# Altium schematic symbol library myLibs.SchLib: 49 symbols
Pins are listed as number, name and electrical type; pins without a type are passive.

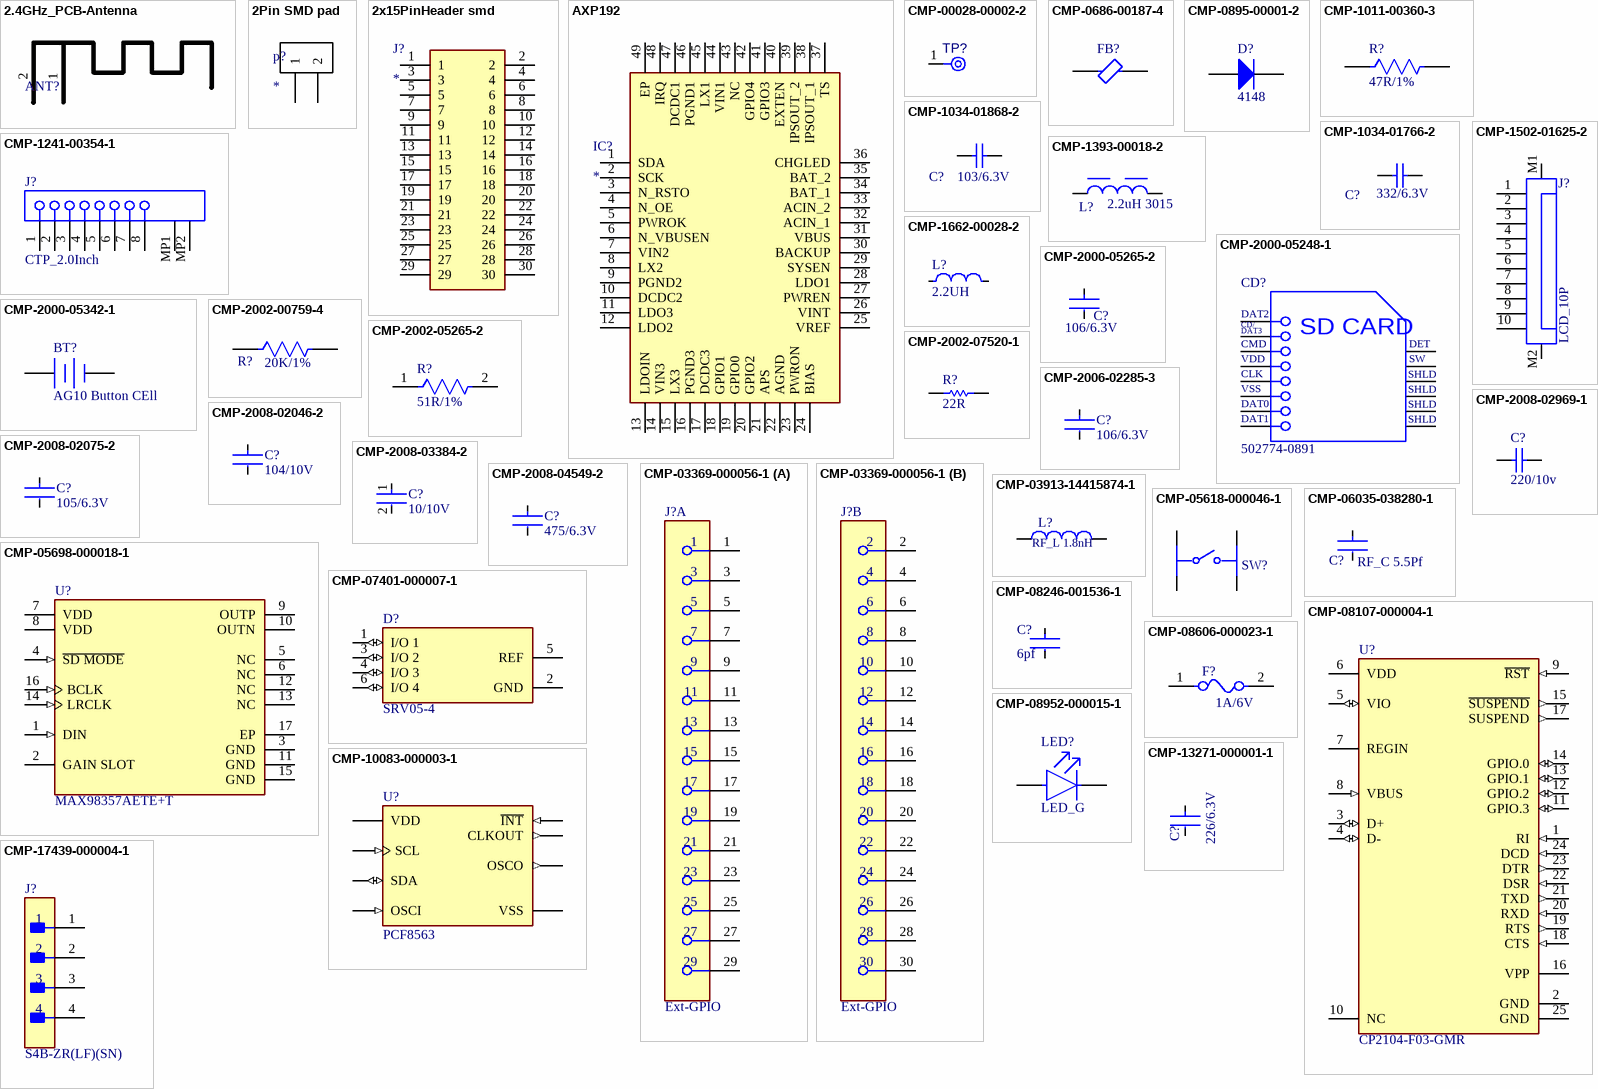
[diagram p0: symbols 2.4GHz_PCB-Antenna to CMP-17439-000004-1]

## 2.4GHz_PCB-Antenna
designator ANT?  (value not drawn)
Generic symbol for PCB Antenna,; Frequency: 2.4GHz; Reference: https://www.ti.com/lit/an/swra117d/swra117d.pdf
footprint 2.4GHZ_PCB-Antenna
pins: 1 ANT_IN, 2 GND

## 2Pin SMD pad
designator p?
footprint 2pin SMD pads (generic pads)
pins: 1, 2

## 2x15PinHeader smd
designator J?
Connector; Manufacturer_Name: SAMTEC; Manufacturer_Part_Number: TMM-115-01-L-D-SM-N; Datasheet Link: http://uk.rs-online.com/web/p/products/4814780; Height: 5.97mm
footprint 2x15pinHeader smd
pins: 1, 2, 3, 4, 5, 6, 7, 8, 9, 10, 11, 12, 13, 14, 15, 16, 17, 18, 19, 20, 21, 22, 23, 24, 25, 26, 27, 28, 29, 30

## AXP192
designator IC?
Integrated Circuit; Manufacturer_Name: X-Powers; Manufacturer_Part_Number: AXP192; Datasheet Link: http://www.x-powers.com/en.php/Info/down/id/50; Height: 0.92mm
footprint AXP192
pins: 1 SDA, 2 SCK, 3 N_RSTO, 4 N_OE, 5 PWROK, 6 N_VBUSEN, 7 VIN2, 8 LX2, 9 PGND2, 10 DCDC2, 11 LDO3, 12 LDO2, 13 LDOIN, 14 VIN3, 15 LX3, 16 PGND3, 17 DCDC3, 18 GPIO1, 19 GPIO0, 20 GPIO2, 21 APS, 22 AGND, 23 PWRON, 24 BIAS, 25 VREF, 26 VINT, 27 PWREN, 28 LDO1, 29 SYSEN, 30 BACKUP, 31 VBUS, 32 ACIN_1, 33 ACIN_2, 34 BAT_1, 35 BAT_2, 36 CHGLED, 37 TS, 38 IPSOUT_1, 39 IPSOUT_2, 40 EXTEN, 41 GPIO3, 42 GPIO4, 43 NC, 44 VIN1, 45 LX1, 46 PGND1, 47 DCDC1, 48 IRQ, 49 EP

## CMP-00028-00002-2
designator TP?, comment TPAD6R  (value not drawn)  (no BOM)
0.6mm round; Pins: 1; Component Type: Mechanical
footprint TP06R
pins: 1 TP

## CMP-0686-00187-4
designator FB?
Chip Ferrite Bead, 0402, 600Ω @ 100MHz, 0.52Ω, 25%, 300mA; Manufacturer: Murata; Manufacturer Part Number: BLM15AG601SN1D; DC Resistance-Max: 600mR; Number of Lines: 1; DC Resistance (DCR): 520mR; Shielding: Unshielded; Impedance: 600R; Material: Steel; Frequency: 100MHz; Lead Free: Lead Free; Max DC Current: 300mA; Test Frequency: 100MHz; Depth: 0.55mm; Length: 1mm; Case Code (Imperial): 0402; Packaging: Tape and Reel; Height: 0.5mm; Max Operating Temperature: 125°C; Military Standard: Not; REACH SVHC: No SVHC; Case Code (Metric): 1005; Series: BLM15AG_SN; Core Material: Ferrite; Termination: SMD/SMT; DC Current: 300mA; Package Quantity: 10000; Width: 0.5mm; RoHS Compliant: Yes; Min Operating Temperature: -55°C; Current Rating: 300mA; Case/Package: 0402; Number of Pins: 2; Radiation Hardening: No; Tolerance: 25%; Number of Circuits: 1; Max Current Rating: 300mA
footprint FP-BLM15-0_05-MFG
footprint FP-BLM15-0_05-IPC_A
footprint FP-BLM15-0_05-IPC_B
footprint FP-BLM15-0_05-IPC_C
pins: 1, 2

## CMP-0895-00001-2
designator D?, comment 4148
Switching Diode, 2-Pin SOD-123, Pb-Free, Tape and Reel; PartNumber: MMSD4148T1G; Manufacturer: On Semiconductor; trr Max (ns): 4; IF Max (A): 0.2; Configuration: Single; Mounting Technology: Surface Mount; ComponentLink2URL: http://www.onsemi.com/pub_link/Collateral/MMSD4148T1-D.PDF; ComponentLink1Description: Manufacturer URL; ComponentLink1URL: http://www.onsemi.com/; ComponentLink2Description: Datasheet; PackageDescription: 2-Pin SOD, Body 1.6 x 2.69 mm; Packing: Tape and Reel; DatasheetVersion: Rev. 11; PackageReference: SOD-123-2-425-04; ComponentLink3Description: Package Specification; ComponentLink3URL: http://www.onsemi.com/pub_link/Collateral/425-04.PDF; PackageVersion: Rev. G, 10/2009; RoHS: TRUE; Manufacturer: ON Semiconductor; Manufacturer Part Number: MMSD4148T1G
footprint ONSC-SOD-123-2-425-04_V (SOD, 2-Leads, Body 2.69x1.6mm)
footprint FP-SOD323-MFG
pins: 1 K, 2 A

## CMP-1011-00360-3
designator R?, comment 47R/1%
RES SMD 47 OHM 1% 1/10W 0402; Manufacturer: Panasonic; Manufacturer Part Number: ERJ-2RKF47R0X; Manufacturer: Vishay; Manufacturer Part Number: CRCW040247R0FKED; Manufacturer: Bourns; Manufacturer Part Number: CR0402-FX-47R0GLF; Manufacturer: Yageo; Manufacturer Part Number: RC0402FR-0747RL; Manufacturer: Vishay Dale; Manufacturer Part Number: CRCW040247R0FKTD; Resistance: 47R; Power Rating: 100mW; Temperature Coefficient: 100ppm/°C; Voltage Rating (DC): 50V; Case Code (Imperial): 0402; Width: 0.02inch; Height: 0.35mm; Features: Automotive AEC-Q200; Case/Package: 0402; RoHS Compliant: Yes; Lead Free: Lead Free; Case Code (Metric): 1005; Technology: THICK FILM; Termination: SMD/SMT; Tolerance: 1%; Resistance Tolerance: 1%; Max Operating Temperature: 155°C; Construction: Rectangular; Mount: Surface Mount; Min Operating Temperature: -55°C; Max Power Dissipation: 100mW; Number of Terminations: 2; Military Standard: Not; REACH SVHC: No SVHC; Resistor Type: Thick Film; Contact Plating: Tin; Package Quantity: 1; Series: ERJ; Packaging: Tape and Reel; Voltage Rating: 50V; Weight: 2.8E-05oz; Length: 1mm; Number of Pins: 2; Depth: 0.5mm
footprint FP-ERJ2RK-IPC_C
footprint FP-ERJ2RK-IPC_A
footprint FP-ERJ2RK-IPC_B
footprint FP-ERJ2RK-MFG
pins: 1, 2

## CMP-1034-01766-2
designator C?, comment 332/6.3V
Part Number: C0402C332K9RACTU; Manufacturer: Kemet; Manufacturer Part Number: C0402C332K9RACTM; Manufacturer Part Number: C0402C332K9RAC; Manufacturer: KEMET; Manufacturer Part Number: C0402C332K9RACTU
footprint CAPC1005X60X30NL05T10 (Chip Capacitor, 2-Leads, Body 1.00x0.50mm, IPC Medium Density)
footprint CAPC1005X55X30LL05T10
pins: 1, 2
1 alternate drawing of the same symbol

## CMP-1034-01868-2
designator C?, comment 103/6.3V
Manufacturer: Kemet; Part Number: C0402C103K9RACTU; Manufacturer Part Number: C0402C103K9RACTM; Manufacturer Part Number: C0402C103K9RAC; Manufacturer: KEMET; Manufacturer Part Number: C0402C103K9RACTU
footprint CAPC1005X55X30LL05T10 (Chip Capacitor, 2-Leads, Body 1.00x0.50mm, IPC High Density)
pins: 1, 2
1 alternate drawing of the same symbol

## CMP-1241-00354-1
designator J?, comment CTP_2.0Inch
0.5 mm Pitch Easy-On(TM) Type FPC Connector, 2.0 mm Mated Height, Right Angle, ZIF, SMT, Top Contact, 8 Circuits, -20 to 85 degC, ELV and RoHS Compliant, Tape and Reel; PartNumber: 52745-0897; Manufacturer: Molex; Material - Plating Mating: Gold; Stackable: No; Material - Metal: Phosphor Bronze; PCB Retention: Yes; Mated Height: 2.00mm; Durability (mating cycles max): 20; Circuits (Loaded): 8; Current (Max per Contact): 0.5A; Pitch - Mating Interface: 0.50mm; Voltage (Max): 50V; Entry Angle: 90degrees Angle; Mounting Technology: Surface Mount; Packing: Tape and Reel; ComponentLink3URL: http://www.molex.com/pdm_docs/sd/527450897_sd.pdf; ComponentLink2URL: http://www.molex.com/webdocs/datasheets/pdf/en-us/0527450897_FFC_FPC_CONNECTORS.pdf; PackageVersion: Rev. C, 07/2010; PackageReference: 52745-0897; Contact Position: Top; Orientation: Right Angle; ComponentLink1Description: Manufacturer URL; ComponentLink2Description: Datasheet; Material - Plating Termination: Gold; Number of Rows: 1; PackageDescription: 8-Lead FPC Connector, Pitch 0.5 mm; ComponentLink3Description: Package Specification; ComponentLink1URL: http://www.molex.com/molex/index.jsp; Polarized to PCB: Yes; PCB Locator: No; RoHS: TRUE; Manufacturer Part Number: 52745-0897
footprint MOLX-52745-0897 (FPC Connector, 8-Leads, Right Angle, Pitch 0.5 mm, Mated Height 2.0 mm, SMT)
pins: 1, 2, 3, 4, 5, 6, 7, 8, MP1, MP2

## CMP-1393-00018-2
designator L?, comment 2.2uH 3015
NexarPartId: 30848167; Manufacturer: Wurth Electronics; Manufacturer Part Number: 74438335022; Shielding: Shielded; Inductance: 2.2µH; DC Resistance (DCR): 94mΩ; Saturation Current: 3.5A; Inductance Tolerance: 20%; Self Resonant Frequency: 45MHz; Max DC Current: 1.8A; Core Material: Composite, Ferrite, Metal; Test Frequency: 100kHz; Packaging: Cut Tape (CT); RoHS: Compliant; Max Operating Temperature: 125°C; Min Operating Temperature: -40°C; REACH SVHC: Unknown; Number of Pins: 2; Height - Seated (Max): 1.4986mm; Case/Package: SMD/SMT; Width: 3mm; Height: 1.5mm; Ambient Temperature Range Low: -40°C; Termination: SMD/SMT; Mount: Surface Mount; RMS Current (Irms): 1.8A; Depth: 3mm; Tolerance: 20%; Series Resistance: 94mΩ; Case Code (Imperial): 1212; Case Code (Metric): 3030; Current Rating: 1.8A; Length: 3mm; Ambient Temperature Range High: 85°C
footprint WE-MAPI_3015 (Power Inductor, 470Nh, Shielded, 5.8A Rohs Compliant: Yes)
pins: 1, 2

## CMP-1502-01625-2
designator J?, comment LCD_10P
NexarPartId: 52645150; Manufacturer: Wurth Electronics; Manufacturer Part Number: 687110149022; Contact Resistance: 50mΩ; Operating Supply Voltage: 50V; Gender: Receptacle; Current Rating: 500mA; Number of Positions: 10; Wire/Cable Type: Straight; Pitch: 500µm; Insulation Resistance: 500MΩ; Actuator Material: Nylon, Polyamide; Contact Plating: Tin; Termination: Solder; Number of Rows: 1; Orientation: Horizontal; Number of Pins: 10; REACH SVHC: Unknown; Housing Material: Nylon; Length: 5.6mm; Flammability Rating: UL94 V-0; Max Operating Temperature: 105°C; Mount: Surface Mount; Voltage Rating: 50V; Contact Material: Bronze; Min Operating Temperature: -40°C; Packaging: Tape and Reel; RoHS: Compliant; Lead Pitch: 500µm; Number of Contacts: 10
footprint 687110149022 (WR-FPC 0.50mm SMT Horiz. Bot. Contact Hinge type)
pins: 1, 2, 3, 4, 5, 6, 7, 8, 9, 10, M1, M2

## CMP-1662-00028-2
designator L?, comment 2.2UH
Multilayer Type Inductor for Power Lines, 1008 (2520), 2.2μH, 20%, 0.1Ω, 1.3A; Manufacturer: Murata; Manufacturer Part Number: LQM2HPN2R2MG0L; Core Material: Ferrite; DC Resistance (DCR): 100mR; Test Frequency: 1MHz; Self Resonant Frequency: 40MHz; Shielding: Shielded; Depth: 2.2mm; Length: 2.5mm; Max DC Current: 1.3A; Military Standard: Not; Current Rating: 1.3A; Termination: SMD/SMT; Radiation Hardening: No; Tolerance: 20%; Height: 1.2mm; Case Code (Metric): 2520; DC Current: 1.3A; Inductance Tolerance: 20%; Packaging: Tape and Reel; Width: 2mm; REACH SVHC: No SVHC; Mount: Surface Mount; Inductance: 2.2uH; Max Operating Temperature: 125°C; Lead Free: Lead Free; Case/Package: 1008; Case Code (Imperial): 1008; Series: LQM2HP_G0; Height - Seated (Max): 0.039inch; Package Quantity: 3000; Min Operating Temperature: -55°C
footprint FP-LQM2HPN_G0-IPC_C
footprint FP-LQM2HPN_G0-IPC_A
footprint FP-LQM2HPN_G0-MFG
footprint FP-LQM2HPN_G0-IPC_B
pins: 1, 2

## CMP-2000-05248-1
designator CD?, comment 502774-0891
Micro SD Memory Card Connector, 0.5 A, 10 V (DC), -25 to 85 degC, 8-Pin SMT, RoHS, Tape and Reel; Manufacturer: Molex; Manufacturer Part Number: 5027740891; 3D Model: 502774-0891.stp; Online Catalog: microSD™Series; Number of Positions: 10(8+2); Card Type: SecureDigital-microSD™; Insertion, Removal Method: PushIn,PushOut; Other Names: WM24066DKR; Connector Type: ConnectorandEjector; Features: Switch; Family: MemoryConnectors-PCCardSockets; Manufacturer URL: http://www.molex.com/; Mounting Type: SurfaceMount,RightAngle; Contact Finish Thickness: 20µin(0.51µm); Standard Package: 1; Series: 502774; Ejector Side: -; Datasheet Version: Rev. D, 04/2004; Category: Connectors,Interconnects; Contact Finish: Gold; Datasheet URL: https://datasheet.ciiva.com/1104/1499551-1104671.pdf; RoHS Information: 502774-0891CertofCompliance; Mounting Feature: Reverse-Bottom; Packaging: Digi-Reel; Height Above Board: 0.071"(1.80mm); Catalog Drawings: 502774-0891
footprint MOLX-502774-0891_V (SMD, 14-Leads, Body 15x14.3mm, Pitch 1.1mm)
pins: 1 DAT2, 2 CD/DAT3, 3 CMD, 4 VDD, 5 CLK, 6 VSS, 7 DAT0, 8 DAT1, 9 DETECT, 10 SWITCH, 11 SHLD, 12 SHLD, 13 SHLD, 14 SHLD
text: CD/; DAT3; SD CARD; DET; SW

## CMP-2000-05265-2
designator C?, comment 106/6.3V
CAP CER 10UF 6.3V X5R 0402; Manufacturer: Murata; Manufacturer Part Number: GRM155R60J106ME44D; Tolerance: 20%; Voltage Rating: 6.3V; Voltage Rating (DC): 6.3V; Voltage: 6.3V; Case Code (Metric): 1005; REACH SVHC: No SVHC; Min Operating Temperature: -55°C; Height: 0.5mm; Dielectric: X5R; Depth: 0.5mm; Thickness: 0.022inch; Packaging: Tape and Reel; Length: 1mm; Mount: Surface Mount; Package Quantity: 10000; Lead Free: Lead Free; Case/Package: 0402; Termination: SMD/SMT; Max Operating Temperature: 85°C; Case Code (Imperial): 0402; Series: GRM; Capacitance: 10uF; Width: 0.5mm; RoHS Compliant: Yes
footprint FP-GRM155-0_2-IPC_B
pins: 1, 2

## CMP-2000-05342-1
designator BT?, comment AG10 Button CEll
MS Lihium Rechargeable Battery, 3 V, -20 to 60 degC, Tray; Manufacturer: SeikoInstruments; Manufacturer: Seiko; Manufacturer Part Number: MS621FE-FL11E; Brand: SeikoInstrumentsMicroEnergy; Output Voltage: 3V; Capacity: 5.5mAh; Chemistry: Lithium; Battery Size: 621; Unit Weight: 0.008113oz; Datasheet URL: http://datasheet.octopart.com/MS621FE-FL11E-Seiko-datasheet-5320152.pdf; Rechargeable/Non-Rechargeable: Rechargeable; Orientation: Vertical; Height: 2.1mm; Series: MS; Datasheet Version: Jan-08; Type: CoinCellBatterywithLeads; Diameter: 6.8mm; Mounting Style: WithLeads; Product Category: CoinCellBattery; Termination Style: ThroughHole; Packaging: Tray; Manufacturer URL: http://www.sii.co.jp/en/; RoHS: NotApplicable; Factory Pack Quantity: 100
footprint SEIK-MS621FE-FL11E-2_V (SMD, 2-Leads, Diameter 6.8mm)
pins: 1 +, 2 -

## CMP-2002-00759-4
designator R?, comment 20K/1%
RES SMD 20K OHM 1% 1/10W 0402; Manufacturer: Panasonic; Manufacturer Part Number: ERJ-2RKF2002X; Resistance: 20kR; Voltage Rating (DC): 50V; Power Rating: 100mW; Temperature Coefficient: 100ppm/°C; Radiation Hardening: No; Case/Package: 0402; Case Code (Metric): 1005; Min Operating Temperature: -55°C; Termination: SMD/SMT; Package Quantity: 1; Length: 1mm; Case Code (Imperial): 0402; Lead Free: Lead Free; Height: 0.35mm; Max Operating Temperature: 155°C; Depth: 0.5mm; Number of Terminations: 2; Military Standard: Not; Max Power Dissipation: 100mW; Tolerance: 1%; Composition: Thick Film; Weight: 2.8E-05oz; Features: Automotive AEC-Q200; Voltage Rating: 50V; Contact Plating: Tin; REACH SVHC: No SVHC; Width: 0.02inch; Packaging: Cut Tape; Mount: Surface Mount
footprint FP-ERJ2RK-MFG
footprint FP-ERJ2RK-IPC_C
footprint FP-ERJ2RK-IPC_A
footprint FP-ERJ2RK-IPC_B
pins: 1, 2

## CMP-2002-05265-2
designator R?, comment 51R/1%
Thick Film Chip Resistors 0402 51Ω 0.0625W 1% 100ppm/°C; Manufacturer: Bourns; Manufacturer Part Number: CR0402-FX-51R0GLF; Voltage Rating: 50V; Power Rating: 62.5mW; Resistance: 51R; Max Power Dissipation: 63mW; Contact Plating: Tin; Termination: SMD/SMT; Min Operating Temperature: -55°C; Package Quantity: 10000; Max Operating Temperature: 125°C; Length: 1mm; Depth: 0.5mm; Case Code (Imperial): 0402; Packaging: Tape and Reel; Case Code (Metric): 1005; Radiation Hardening: No; Thickness: 356um; Composition: Thick Film; Width: 0.02inch; Case/Package: 0402; Height: 0.016inch; Temperature Coefficient: 100ppm/°C; Mount: Surface Mount; Tolerance: 1%; Number of Terminations: 2; Military Standard: Not
footprint FP-CR0402-IPC_A
footprint FP-CR0402-IPC_B
footprint FP-CR0402-MFG
footprint FP-CR0402-IPC_C
pins: 1, 2

## CMP-2002-07520-1
designator R?, comment 22R
Manufacturer: Yageo / Phycomp; Part Number: RC0402FR-0722RL; Manufacturer: Yageo; Manufacturer Part Number: RC0402FR-0722RL
footprint RESC1005X40X25LL05T10 (Chip Resistor, 2-Leads, Body 1.00x0.50mm, IPC High Density)
pins: 1, 2
1 alternate drawing of the same symbol

## CMP-2006-02285-3
designator C?, comment 106/6.3V
CAP CER 10UF 6.3V X5R 0603; Manufacturer Part Number: C0603C106M9PACTU; Manufacturer: Kemet; Material: Ceramic; Temperature Coefficient: 15%; Tolerance: 20%; Category: Cap; Height: 0.9mm; Digikey Description: CAP CER 10UF 6.3V X5R 0603; Mouser Description: In a Pack of 10, KEMET 0603 (1608M) 10µF MLCC 6.3V dc ±20% SMD C0603C106M9PACTU; Voltage Rating: 6.3V; Device Class L2: Capacitors; Temperature Range Low: -55°C; Temperature Characteristic: X5R; ComponentLink2Description: Datasheet; Ipc Land Pattern Name: CAPC16080X80; ComponentLink2URL: http://www.kemet.com/Lists/ProductCatalog/Attachments/19/KEM_C1006_X5R_SMD.pdf; Capacitance: 10uF; Temperature Range High: +85°C; Device Class L3: Ceramic Capacitors; RoHS: TRUE; Automotive: No; Value: 10uF; Temperature: -55°C to +85°C; Device Class L1: Passive Components; Package: C0603C106M9PACTU; Lead Free: Yes; Octopart: https://octopart.com/c0603c106m9pactu-kemet-8375727; Manufacturer: KEMET
footprint FP-C0603C106M9PACTU-MFG
footprint FP-GRM155-0_1-IPC_B
pins: 1, 2

## CMP-2008-02046-2
designator C?, comment 104/10V
CAP CER 0.1UF 10V X5R 0402; Manufacturer: Kemet; Manufacturer Part Number: C0402C104K8PACTU; Material: Ceramic; Capacitance: 0.10 μF; Temperature Coefficient: 15%; Tolerance: 0.1; Value: 0.10 μF; Package: C0402-BB; Temperature: -55°C to +125°C; ComponentLink2Description: Datasheet; Temperature Characteristic: X5R; Device Class L1: Passive Components; Height: 0.55mm; Lead Free: Yes; ComponentLink2URL: https://content.kemet.com/datasheets/KEM_C1002_X7R_SMD.pdf; Device Class L2: Capacitors; Temperature Range Low: -55°C; Temperature Range High: +125°C; RoHS: TRUE; Octopart: https://octopart.com/c0402c104k8pactu-kemet-140039; Automotive: No; Mouser Description: Capacitor 100 nF 10 VDC 0402; Category: Cap; Voltage Rating: 10 V; Digikey Description: CAP CER 0.1UF 10V X5R 0402; Ipc Land Pattern Name: CAPC10050X50; Device Class L3: Ceramic Capacitors; Manufacturer: KEMET
footprint FP-C0402-BB-MFG
footprint FP-C0402-BB-IPC_C
footprint FP-C0402-BB-IPC_B
footprint FP-C0402-BB-IPC_A
pins: 1, 2

## CMP-2008-02075-2
designator C?, comment 105/6.3V
CAP CER 1UF 6.3V X5R 0402; Manufacturer: KEMET; Manufacturer Part Number: C0402C105K9PACTU; Tolerance: 10%; Dielectric Material: Ceramic; Series: C; Lead Free: Lead Free; Min Operating Temperature: -55°C; Capacitance: 1uF; Voltage Rating (DC): 6.3V; Number of Pins: 2; REACH SVHC: No SVHC; Mount: Surface Mount; Lead Pitch: 0.3mm; Case Code (Imperial): 0402; RoHS Compliant: Yes; Radiation Hardening: No; Construction: Flat; Depth: 0.5mm; Case/Package: 0402; Termination: SMD/SMT; Height: 0.5mm; Thickness: 0.022inch; Voltage: 6.3V; Dielectric: X5R; Width: 0.02inch; Voltage Rating: 6.3V; Max Operating Temperature: 85°C; Packaging: Tape and Reel; Package Quantity: 1; Length: 1mm
footprint FP-C0402C105K9PACTU-MFG
pins: 1, 2

## CMP-2008-02969-1
designator C?, comment 220/10v
Part Number: 0402ZC221KAT2A; Manufacturer: AVX Interconnect / Elco; Manufacturer: Kyocera AVX; Manufacturer Part Number: 0402ZC221KAT2A
footprint CAPC1005X56X25LL10T15 (Chip Capacitor, 2-Leads, Body 1.00x0.50mm, IPC High Density)
footprint CAPC1005X56X25NL10T15 (Chip Capacitor, 2-Leads, Body 1.00x0.50mm, IPC Medium Density)
footprint CAPC1005X56X25ML10T15 (Chip Capacitor, 2-Leads, Body 1.00x0.50mm, IPC Low Density)
pins: 1, 2
1 alternate drawing of the same symbol

## CMP-2008-03384-2
designator C?, comment 10/10V
CAP CER 10PF 10V NP0 0402; Manufacturer Part Number: C0402C100J8GACTU; Manufacturer: Kemet; Material: Ceramic; Temperature Characteristic: C0G; Temperature Coefficient: 15%; Tolerance: 0.05; Device Class L3: Ceramic Capacitors; Automotive: No; Ipc Land Pattern Name: CAPC10050X50; Temperature Range Low: -55°C; Capacitance: 10 pF; Device Class L2: Capacitors; Digikey Description: CAP CER 10PF 10V NP0 0402; Lead Free: Yes; Device Class L1: Passive Components; Category: Cap; ComponentLink2URL: https://content.kemet.com/datasheets/KEM_C1002_X7R_SMD.pdf; Voltage Rating: 10 V; Temperature: -55°C to +125°C; Mouser Description: Capacitor, Ceramic, 10Pf, 10Vdc, 5-% Tol, 5+% Tol, C0g-Tc Code, -30, 30Ppm-Tc Rohs Compliant: Yes; Height: 0.55mm; Octopart: https://octopart.com/c0402c100j8gactu-kemet-12542785; Temperature Range High: +125°C; Value: 10 pF; RoHS: TRUE; ComponentLink2Description: Datasheet; Package: C0402-BB; Manufacturer: KEMET
footprint FP-ERJ2RK-IPC_C
pins: 1, 2

## CMP-2008-04549-2
designator C?, comment 475/6.3V
Chip Multilayer Ceramic Capacitors for General Purpose, 0402, 4.7uF, X5R, 15%, 20%, 6.3V; Manufacturer: Murata; Manufacturer Part Number: GRM155R60J475ME47D; Height: 0.5mm; Weight: 0.000212oz; Length: 1mm; Case Code (Metric): 1005; Packaging: Tape and Reel; Termination: SMD/SMT; Dielectric: X5R; Depth: 0.5mm; Case Code (Imperial): 0402; Min Operating Temperature: -55°C; Case/Package: 0402; Voltage: 6.3V; Width: 0.02inch; Capacitance: 4.7uF; Lead Free: Lead Free; Thickness: 0.022inch; Contact Plating: Tin; REACH SVHC: No SVHC; Package Quantity: 10000; Tolerance: 20%; Voltage Rating (DC): 6.3V; Voltage Rating: 6.3V; Mount: Surface Mount; Max Operating Temperature: 85°C
footprint FP-GRM155-0_1-IPC_B
pins: 1, 2

## CMP-03369-000056-1
designator J?, comment Ext-GPIO
CONN RCPT 30POS 0.1 GOLD PCB; Manufacturer Part Number: 6-534206-5; Manufacturer: TE; Manufacturer: TE Connectivity; Number Of Contacts: 30; Is Female: yes; Pitch: 2.54mm; Conn Gender: Female; Standoff Height: 0.38mm; Conn Orientation: Vertical; Current Rating: 2A; Lead Free: Yes; Category: Conn; Mouser Description: Headers & Wire Housings REC 2X15P VRT T/H; Device Class L3: unset; Height: 8.9mm; ComponentLink2Description: Datasheet; RoHS: TRUE; ComponentLink2URL: https://www.te.com/commerce/DocumentDelivery/DDEController?Action=showdoc&DocId=Specification+Or+Standard%7F114-25018%7FE%7Fpdf%7FEnglish%7FENG_SS_114-25018_E.pdf%7F6-534206-5; Temperature: -65°C to +105°C; Temperature Range Low: -65°C; Footprint Url: https://www.te.com/commerce/DocumentDelivery/DDEController?Action=showdoc&DocId=Customer+Drawing%7F534206%7FR7%7Fpdf%7FEnglish%7FENG_CD_534206_R7.pdf%7F6-534206-5; Contact Material: Gold,Nickel; Automotive: No; Package: 0; Device Class L2: Headers and Wire Housings; Device Class L1: Connectors; Temperature Range High: +105°C; Number Of Rows: 2; Digikey Description: CONN RCPT 30POS 0.1 GOLD PCB; Octopart: https://octopart.com/6-534206-5-te+connectivity-39516817
footprint FP-6-534206-5-MFG
part A pins: 1, 3, 5, 7, 9, 11, 13, 15, 17, 19, 21, 23, 25, 27, 29
part B pins: 2, 4, 6, 8, 10, 12, 14, 16, 18, 20, 22, 24, 26, 28, 30

## CMP-03913-14415874-1
designator L?, comment RF_L 1.8nH
744901018 Fixed Ind 1.8NH 560MA 200MOHM Sm; NexarPartId: 14415874; Manufacturer: Wurth Electronics; Shielding: Unshielded; Q Factor: 13; Core Material: Alumina; Self Resonant Frequency: 10GHz; DC Resistance (DCR): 140mΩ; Test Frequency: 500MHz; Length: 1mm; RoHS: Compliant; REACH SVHC: No SVHC; Current Rating: 560mA; Case Code (Metric): 1005; Number of Pins: 2; Mount: Surface Mount; Max Operating Temperature: 125°C; Max DC Current: 560mA; Packaging: Digi-Reel®; Height - Seated (Max): 406.4µm; Width: 500µm; Height: 320µm; Case/Package: 0402; Case Code (Imperial): 0402; Composition: Thin Film; Min Operating Temperature: -40°C; Inductance: 1.8nH; Manufacturer Part Number: 744901018
footprint WE-TCI_0402 (Fixed Ind 1NH 700MA 100 Mohm SMD)
pins: 1, 2

## CMP-05618-000046-1
designator SW?, comment EVQ-PUC02K  (value not drawn)
SWITCH TACTILE SPST-NO 0.05A 12V; Manufacturer: Panasonic; Current Rating: 50mA; Operating Force: 2.2N; Actuator Color: Black; Mechanical Life: 100000Cycles; Switch Function: Off-Mom; Switch Travel: 0.3mm; Throw Configuration: SPST; Contact Resistance: 500mR; Illumination Type: Non-Illuminated; Actuator Length: 1mm; Mount: Surface Mount; Contact Plating: Silver; Series: EVQPU; Packaging: Tape and Reel; Height: 1.65mm; Radiation Hardening: No; Termination: Gull Wing; Depth: 4.5mm; Max Operating Temperature: 70°C; RoHS Compliant: Yes; Contact Current Rating: 50mA; Length: 6.4mm; Electrical Life: 100000Cycles; Max Voltage Rating (DC): 12V; Package Quantity: 1; Width: 3.5mm; Min Operating Temperature: -40°C; Max Current Rating: 50mA; Orientation: Straight; Voltage Rating (DC): 12V; Size: 3.5mm; Lead Free: Lead Free; Manufacturer Part Number: EVQ-PUC02K
footprint FP-EVQ-PUC02K-MFG
pins: 1, 2, 3, 4

## CMP-05698-000018-1
designator U?, comment MAX98357AETE+T
IC AMP CLASS D MONO 3.2W 16TQFN; Manufacturer: Maxim; Max Supply Voltage: 5.5V; Max Output Current: 1.6A; Voltage Gain: 15dB; Max Power Dissipation: 1.666W; Min Supply Voltage: 2.5V; Power Supply Rejection Ratio (PSRR): 77dB; Series: -; Contact Plating: Tin; Min Operating Temperature: -40°C; Packaging: Tape and Reel; Max Output Power: 3.2W; Mount: Surface Mount; Number of Pins: 16; RoHS Compliant: Yes; Max Operating Temperature: 85°C; Radiation Hardening: No; Manufacturer Part Number: MAX98357AETE+T
footprint FP-T1633-4-MFG
footprint FP-T1633-4-IPC_B
footprint FP-T1633-4-IPC_C
footprint FP-T1633-4-IPC_A
pins: 1 DIN (in), 2 GAIN SLOT, 3 GND (power), 4 ~{SD MODE} (in), 5 NC, 6 NC, 7 VDD (power), 8 VDD (power), 9 OUTP, 10 OUTN, 11 GND (power), 12 NC, 13 NC, 14 LRCLK (in), 15 GND (power), 16 BCLK (in), 17 EP

## CMP-06035-038280-1
designator C?, comment RF_C 5.5Pf
Multi-Layer Ceramic Capacitor 5.5pF C0G  ±0.05pF 0402 Paper T/R; Manufacturer: Murata; Manufacturer Part Number: GJM1555C1H5R5WB01D; Voltage Rating (DC): 50V; Radiation Hardening: No; Length: 0.039inch; Min Operating Temperature: -55°C; Dielectric: C0G; Thickness: 0.022inch; Case/Package: 0402; Voltage Rating: 50V; Packaging: Tape and Reel; Height: 0.5mm; Case Code (Metric): 1005; Capacitance: 5.5pF; Max Operating Temperature: 125°C; Termination: SMD/SMT; Package Quantity: 10000; Width: 0.02inch; Depth: 0.5mm; Mount: Surface Mount; Case Code (Imperial): 0402
footprint FP-GJM155-0_05-IPC_C
footprint FP-GJM155-0_05-IPC_A
footprint FP-GJM155-0_05-IPC_B
footprint FP-GJM155-0_05-MFG
pins: 1, 2

## CMP-07401-000007-1
designator D?, comment SRV05-4
TVS DIODE 5V 15V SOT23-6; Manufacturer Part Number: CDSOT23-SRV05-4; Manufacturer: Bourns Inc.; Manufacturer: Bourns; Standoff Height: 0.2mm; Direction: Bidirectional; Peak Pulse Power: 500W; Max Junction Temp: +150°C; Number Of Channels: 4; Breakdown Voltage: 6V; Peak Pulse Current: 30A; Temperature Range High: +150°C; RoHS: TRUE; Category: Diode; Clamping Voltage: 15V; Reverse Standoff Voltage: 5V; Octopart: https://octopart.com/cdsot23-srv05-4-bourns-1679449; Automotive: No; ComponentLink2URL: https://www.bourns.com/docs/Product-Datasheets/CDSOT23-SRV05-4.pdf; Device Class L1: Circuit Protection; Temperature: -55°C to +150°C; Device Class L2: TVS Diodes; Temperature Range Low: -55°C; Lead Free: Yes; Device Class L3: unset; Height: 1.45mm; Package: CDSOT23-SRV05-4; Ipc Land Pattern Name: SOT95P280X118-6; Mouser Description: CDSOT23-SRV05-4, Quad Uni-Directional TVS Diode, 500W, 6-Pin SOT-23; ComponentLink2Description: Datasheet; Digikey Description: TVS DIODE 5V 15V SOT23-6
footprint FP-CDSOT23-SRV05-4-MFG
footprint FP-CDSOT23-SRV05-4-IPC_C
footprint FP-CDSOT23-SRV05-4-IPC_B
footprint FP-CDSOT23-SRV05-4-IPC_A
pins: 1 I/O 1 (io), 2 GND (power), 3 I/O 2 (io), 4 I/O 3 (io), 5 REF (power), 6 I/O 4 (io)

## CMP-08107-000004-1
designator U?, comment CP2104-F03-GMR
IC SGL USB-TO-UART BRIDGE 24QFN; Manufacturer: Silicon Laboratories; Manufacturer: Silicon Labs; Max Supply Voltage: 3.6V; Min Supply Voltage: 1.8V; Nominal Supply Current: 100-17000uA; Standoff Height: 0mm; Interface: UART,USB; Temperature Range Low: -40°C; Lead Free: Yes; Device Class L3: Controllers; Ambient Temperature Range Low: -55°C; Automotive: No; Category: IC; Temperature: -40°C to +85°C; Octopart: https://octopart.com/cp2104-f03-gmr-silicon+labs-19668642; Ambient Temperature Range High: +125°C; Package: CP2104-F03-GMR; Device Class L2: Interface ICs; Digikey Description: IC SGL USB-TO-UART BRIDGE 24QFN; Device Class L1: Integrated Circuits (ICs); Manufacturer Part Number: CP2104-F03-GMR; Temperature Range High: +85°C; ComponentLink2URL: https://www.silabs.com/documents/public/data-sheets/cp2104.pdf; Height: 0.8mm; Ipc Land Pattern Name: QFN50P400X400X75-24; Mouser Description: I/O Controller Interface IC USB to UART bridge; ComponentLink2Description: Datasheet; RoHS: TRUE
footprint FP-CP2104-F03-GMR-MFG
footprint FP-CP2104-F03-GMR-IPC_C
footprint FP-CP2104-F03-GMR-IPC_B
footprint FP-CP2104-F03-GMR-IPC_A
pins: 1 RI (in), 2 GND (power), 3 D+ (io), 4 D- (io), 5 VIO (io), 6 VDD (power), 7 REGIN (power), 8 VBUS (in), 9 ~{RST} (in), 10 NC, 11 GPIO.3 (io), 12 GPIO.2 (io), 13 GPIO.1 (io), 14 GPIO.0 (io), 15 ~{SUSPEND} (out), 16 VPP (power), 17 SUSPEND (out), 18 CTS (in), 19 RTS (out), 20 RXD (in), 21 TXD (out), 22 DSR (in), 23 DTR (out), 24 DCD (in), 25 GND (power)

## CMP-08246-001536-1
designator C?, comment 6pf
Cap Ceramic 6pF 50V C0G 0.5pF Pad SMD 0402 +125°C Automotive T/R; Manufacturer: TDK; Manufacturer Part Number: CGA2B2C0G1H060D050BA; Packaging: Tape and Reel; Weight: 2.3E-05oz; Max Operating Temperature: 125°C; Dielectric: C0G; Capacitance: 6pF; Voltage Rating: 50V; Ratings: AEC-Q200; Voltage Rating (DC): 50V; Mount: Surface Mount; REACH SVHC: No SVHC; Height: 0.5mm; Case/Package: 0402; Min Operating Temperature: -55°C; Termination: SMD/SMT; Length: 1mm; Width: 0.02inch; Case Code (Imperial): 0402; Thickness: 0.022inch; Case Code (Metric): 1005; Composition: Ceramic; Depth: 0.5mm; Package Quantity: 1
footprint FP-CGA2B-IPC_A
footprint FP-CGA2B-IPC_C
footprint FP-CGA2B-MFG
footprint FP-CGA2B-IPC_B
pins: 1, 2

## CMP-08606-000023-1
designator F?, comment 1A/6V
PTC RESET FUSE 6V 500MA 0805; Manufacturer Part Number: 0805L050WR; Manufacturer: Littelfuse Inc.; Manufacturer: Littelfuse; Current Rating: 100A; Hold Current: 0.5A; Value: 0.15-0.85Ω; Trip Time: 0.1s; Trip Current: 1A; Device Class L2: PTC Resettable Fuses; Digikey Description: PTC RESET FUSE 6V 500MA 0805; ComponentLink2URL: https://www.littelfuse.com/~/media/electronics/datasheets/resettable_ptcs/littelfuse_ptc_0805l_datasheet.pdf.pdf; Package: 0805L; RoHS: TRUE; Temperature Range Low: -40°C; Octopart: https://octopart.com/0805l050wr-littelfuse-673858; Resistance: 0.15-0.85Ω; ComponentLink2Description: Datasheet; Category: Fuse; Height: 1.25mm; Mouser Description: PTC Resettable Fuse 0.5A(hold) 1A(trip) 6VDC 100A 0.5W 0.1s 0.15Ohm SMD Solder Pad 0805 T/R; Ambient Temperature Range High: +85°C; Automotive: No; Device Class L3: unset; Lead Free: Yes; Temperature: -40°C to +85°C; Voltage Rating: 6V; Ambient Temperature Range Low: -40°C; Temperature Range High: +85°C; Device Class L1: Circuit Protection
footprint FP-0805L-MFG
pins: 1, 2

## CMP-08952-000015-1
designator LED?, comment LED_G
LED GREEN CLEAR 1006 SMD; Manufacturer Part Number: SML-P13PTT86R; Manufacturer: Rohm; Power Dissipation: 52mW; Forward Current: 20mA; Reverse Voltage: 5V; Led Orientation: Top View; Forward Voltage: 2.1V; Luminous Intensity: 10mcd; Wavelength: 560nm; Temperature: -40°C to +85°C; Digikey Description: LED GREEN CLEAR 1006 SMD; Lead Free: Yes; Height: 0.25mm; Package: SML-P1; RoHS: TRUE; Mouser Description: LED Uni-Color Green 2-Pin Chip 0402(1006Metric) T/R; Device Class L2: LEDs; ComponentLink2URL: https://d1d2qsbl8m0m72.cloudfront.net/en/products/databook/datasheet/opto/led/chip_mono/sml-p1-e.pdf; Device Class L1: Optoelectronics; ComponentLink2Description: Datasheet; Category: Diode; Temperature Range High: +85°C; Automotive: No; Temperature Range Low: -40°C; Octopart: https://octopart.com/sml-p13ptt86r-rohm-59370256; Device Class L3: unset; Colour: Green
footprint FP-SML-P1-MFG
pins: 1 C, 2 A

## CMP-10083-000003-1
designator U?, comment PCF8563
IC RTC CLK/CALENDAR I2C 8-SOIC; Manufacturer: NXP Semiconductors; Manufacturer Part Number: PCF8563T/F4,118; Nominal Supply Current: 0.225-0.95uA; Standoff Height: 0.1mm; Max Supply Voltage: 5.5V; Interface: I2C,2-Wire; Number Of Outputs: 1; Frequency: 32.768kHz; Min Supply Voltage: 1V; Package: SOT96-1; RoHS: TRUE; Device Class L2: Clock and Timing; ComponentLink2URL: https://www.nxp.com/docs/en/data-sheet/PCF8563.pdf; Ambient Temperature Range Low: -40°C; Ipc Land Pattern Name: SOIC127P600X175-8; Digikey Description: IC RTC CLK/CALENDAR I2C 8-SOIC; Device Class L1: Integrated Circuits (ICs); Ambient Temperature Range High: +85°C; Mouser Description: Real Time Clock ULTRA LO PWR CLK/CAL; Device Class L3: Real Time Clocks; Automotive: No; Octopart: https://octopart.com/pcf8563t%2Ff4%2C118-nxp+semiconductors-10476398; Footprint Url: https://www.nxp.com/docs/en/package-information/SOT96-1.pdf; Height: 1.75mm; Lead Free: Yes; ComponentLink2Description: Datasheet; Category: IC
footprint FP-SOT96-1-MFG
footprint FP-SOT96-1-IPC_C
footprint FP-SOT96-1-IPC_B
footprint FP-SOT96-1-IPC_A
pins: 1 OSCI (in), 2 OSCO (out), 3 ~{INT} (in), 4 VSS (power), 5 SDA (io), 6 SCL (in), 7 CLKOUT (out), 8 VDD (power)

## CMP-13271-000001-1
designator C?, comment 226/6.3V
CAP CER 22UF 6.3V X5R 0402; Manufacturer Part Number: CL05A226MQ5N6J8; Manufacturer: Samsung Electro-Mechanics; Manufacturer: Samsung; Material: Ceramic; Temperature Coefficient: 15%; Tolerance: 20%; Ipc Land Pattern Name: CAPC10050X50; Lead Free: Yes; Temperature Characteristic: X5R; Temperature: -55°C to +85°C; RoHS: TRUE; ComponentLink2Description: Datasheet; Device Class L3: Ceramic Capacitors; Device Class L1: Passive Components; Value: 22uF; Temperature Range High: +85°C; Automotive: No; Voltage Rating: 6.3V; Package: 0402; Category: Cap; Device Class L2: Capacitors; Height: 0.55mm; ComponentLink2URL: http://www.samsungsem.com/kr/support/library/product-catalog/__icsFiles/afieldfile/2018/11/28/MLCC.pdf; Temperature Range Low: -55°C; Octopart: https://octopart.com/cl05a226mq5n6j8-samsung-82337113; Capacitance: 22uF; Digikey Description: CAP CER 22UF 6.3V X5R 0402
footprint FP-CL05A226MQ5N6J8-IPC_C
footprint FP-GRM155-0_2-IPC_B
pins: 1, 2

## CMP-17439-000004-1
designator J?, comment S4B-ZR(LF)(SN)
CONN HEADER R/A 4POS 1.5MM; Manufacturer: JST; Conn Gender: Male; Conn Orientation: Right Angle; Number Of Contacts: 4; Voltage Rating: 50V; Current Rating: 1A; Device Class L3: unset; Number Of Rows: 1; Category: Conn; ComponentLink2URL: http://www.jst-mfg.com/product/pdf/eng/eZH.pdf; Height: 3.7mm; Pitch: 1.5mm; Device Class L1: Connectors; Octopart: https://octopart.com/s4b-zr%28lf%29%28sn%29-jst-248835; Package: S4B-ZR(LF)(SN); Temperature: -25°C to +85°C; Digikey Description: CONN HEADER R/A 4POS 1.5MM; Contact Material: Tin; Manufacturer Part Number: S4B-ZR(LF)(SN); Temperature Range High: +85°C; Automotive: No; Temperature Range Low: -25°C; Lead Free: Yes; RoHS: TRUE; ComponentLink2Description: Datasheet; Device Class L2: Headers and Wire Housings
footprint FP-S4B-ZR_LF_SN-MFG
pins: 1, 2, 3, 4

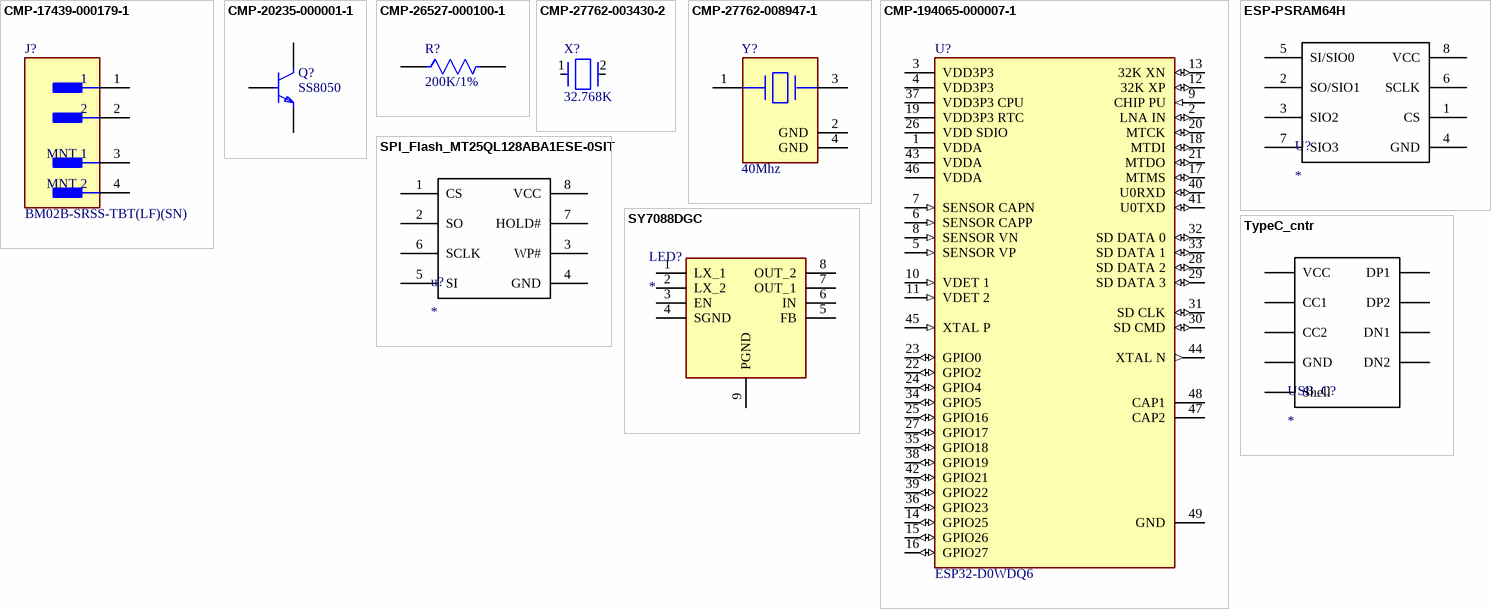
[diagram p1: symbols CMP-17439-000179-1 to TypeC_cntr]

## CMP-17439-000179-1
designator J?, comment BM02B-SRSS-TBT(LF)(SN)
CONN WIRE HDR 2POS 1MM STSMD; Manufacturer: JST; Mated Stacking Heights: 4.9mm; Max Current Rating: 1A; Pitch: 0.039inch; Contact Resistance: 20mR; Max Voltage Rating (DC): 50V; Connector Type: Header; Number of Positions: 2; Insulation Material: Nylon; Termination: Solder; Contact Plating: Tin; Mount: Surface Mount; Package Quantity: 1500; Housing Color: Natural; Orientation: Straight; Max Operating Temperature: 85°C; Min Operating Temperature: -25°C; Length: 4mm; Lead Free: Lead Free; Contact Type: Male Pin; Depth: 3.6mm; Contact Material: Copper Alloy; Packaging: Tape and Reel; Number of Rows: 1; Contact Shape: Square; Flammability Rating: UL94 V-0; Voltage Rating: 50V; Color: Natural; Contact Finish - Mating: TIN; Fastening Type: Pull; Insulation Color: Natural; Series: SR; Max Voltage Rating (AC): 50V; Housing Material: Polyamide; Manufacturer Part Number: BM02B-SRSS-TBT(LF)(SN)
footprint FP-BM02B-SRSS-TBT_LF_SN-MFG
pins: 1, 2, 3 MNT 1, 4 MNT 2

## CMP-20235-000001-1
designator Q?, comment SS8050
NPN TRANSISTOR 1.5A 40V SOT-23 R; Manufacturer: Comchip; Manufacturer Part Number: SS8050-G; Transition Frequency: 100MHz; Max Breakdown Voltage: 25V; Collector Emitter Voltage (VCEO): 400mV; Max Power Dissipation: 300mW; Max Collector Current: 1.5A; Case/Package: TO-236-3; Packaging: Tape and Reel; RoHS Compliant: Yes; Mount: Surface Mount; Collector Emitter Breakdown Voltage: 25V
footprint FP-SS8050-G-MFG
footprint FP-SS8050-G-IPC_C
footprint FP-SS8050-G-IPC_B
footprint FP-SS8050-G-IPC_A
pins: 1 B, 2 E, 3 C

## CMP-26527-000100-1
designator R?, comment 200K/1%
200kΩ ±1% 0.063W 0402 Thick Film Chip Resistor AEC-Q200 compliant; Manufacturer: Stackpole Electronics; Manufacturer Part Number: RMCF0402FT200K; Resistance: 200kR; Temperature Coefficient: 100ppm/°C; Power Rating: 63mW; Size Code: 0402; Case Code (Imperial): 0402; Resistor Type: Thick Film; Contact Plating: Tin; Width: 0.02inch; Height: 0.016inch; Case/Package: 0402; Mount: Surface Mount; Min Operating Temperature: -55°C; Series: RMCF; Number of Terminations: 2; RoHS Compliant: Yes; Case Code (Metric): 1005; Packaging: Tape and Reel; Length: 0.039inch; Features: Automotive AEC-Q200; Lead Free: Lead Free; Radiation Hardening: No; Tolerance: 1%; Max Power Dissipation: 63mW; Max Operating Temperature: 155°C
footprint FP-RMCF0402-IPC_C
footprint FP-RMCF0402-IPC_A
footprint FP-RMCF0402-IPC_B
footprint FP-RMCF0402-MFG
pins: 1, 2

## CMP-27762-003430-2
designator X?, comment 32.768K
Crystal 32.768kHz ±10ppm (Tol) 9pF FUND 90kΩ 2-Pin Mini-CSMD T/R; Manufacturer: Abracon; Manufacturer Part Number: ABS06-32.768KHZ-9-1-T; Series Resistance: 90kR; Series: ABS06; Case/Package: CSMD; Package Quantity: 3000; Load Capacitance: 9pF; Number of Pins: 2; Tolerance: 10ppm; RoHS Compliant: Yes; Depth: 1.2mm; Termination: SMD/SMT; Min Operating Temperature: -40°C; Length: 2mm; Packaging: Tape and Reel; Max Operating Temperature: 85°C; Frequency Tolerance: 10ppm; Width: 1.2mm; ESR (Equivalent Series Resistance): 90kR; Radiation Hardening: No; Frequency: 32.768kHz; REACH SVHC: No SVHC; Mount: Surface Mount; Height: 0.6mm
footprint FP-ABS06-MFG
pins: 1, 2

## CMP-27762-008947-1
designator Y?, comment 40Mhz
Crystal 40MHz ±10ppm 10pF SMD-4 3.2mm x 2.5mm; Manufacturer: Abracon; Manufacturer Part Number: ABM8-40.000MHZ-10-1-U-T; ESR (Equivalent Series Resistance): 35R; Frequency: 40MHz; Number of Pins: 4; Frequency Stability: 10ppm; Radiation Hardening: No; Tolerance: 10ppm; Min Operating Temperature: -10°C; Resistor Type: Ceramic; Width: 0.098inch; Max Operating Temperature: 60°C; Case/Package: SMD/SMT; Packaging: Tape and Reel; Mount: Surface Mount; Termination: SMD/SMT; Load Capacitance: 10pF; Series: ABM8; Height: 0.031inch; Frequency Tolerance: 10ppm; Operating Frequency: 40 MHz; Package Quantity: 1000; Length: 0.126inch; Lead Free: Lead Free
footprint FP-ABM8-MFG
pins: 1, 2 GND (power), 3, 4 GND (power)

## CMP-194065-000007-1
designator U?, comment ESP32-D0WDQ6
IC RF TXRX+MCU BLUETOOTH 48VFQFN; Manufacturer: Espressif Systems; Memory Size: 520KB; Current - Receiving: 100mA; Current - Transmitting: 240mA; Interface: I2C; Sensitivity: -98dBm; Frequency: 2.4GHz; Data Rate: 150Mbps; Number of GPIO: 34; Min Operating Temperature: -40°C; Max Operating Temperature: 125°C; Packaging: Tape and Reel; Manufacturer Part Number: ESP32-D0WDQ6
footprint FP-ESP32-D0WDQ6-IPC_C
footprint FP-ESP32-D0WDQ6-IPC_B
footprint FP-ESP32-D0WDQ6-IPC_A
pins: 1 VDDA (power), 2 LNA IN (io), 3 VDD3P3 (power), 4 VDD3P3 (power), 5 SENSOR VP (in), 6 SENSOR CAPP (in), 7 SENSOR CAPN (in), 8 SENSOR VN (in), 9 CHIP PU (in), 10 VDET 1 (in), 11 VDET 2 (in), 12 32K XP (io), 13 32K XN (io), 14 GPIO25 (io), 15 GPIO26 (io), 16 GPIO27 (io), 17 MTMS (io), 18 MTDI (io), 19 VDD3P3 RTC (power), 20 MTCK (io), 21 MTDO (io), 22 GPIO2 (io), 23 GPIO0 (io), 24 GPIO4 (io), 25 GPIO16 (io), 26 VDD SDIO (power), 27 GPIO17 (io), 28 SD DATA 2 (io), 29 SD DATA 3 (io), 30 SD CMD (io), 31 SD CLK (io), 32 SD DATA 0 (io), 33 SD DATA 1 (io), 34 GPIO5 (io), 35 GPIO18 (io), 36 GPIO23 (io), 37 VDD3P3 CPU (power), 38 GPIO19 (io), 39 GPIO22 (io), 40 U0RXD (io), 41 U0TXD (io), 42 GPIO21 (io), 43 VDDA (power), 44 XTAL N (out), 45 XTAL P (in), 46 VDDA (power), 47 CAP2, 48 CAP1, 49 GND (power)

## ESP-PSRAM64H
designator U?
64 Mbit serial pseudo SRAM; ComponentLink1Description: Datasheet; ComponentLink1URL: https://www.espressif.com/sites/default/files/documentation/esp-psram64_esp-psram64h_datasheet_en.pdf
footprint ESP-PSRAM64H (64 Mbit serial pseudo SRAM)
pins: 1 CS, 2 SO/SIO1, 3 SIO2, 4 GND, 5 SI/SIO0, 6 SCLK, 7 SIO3, 8 VCC

## SPI_Flash_MT25QL128ABA1ESE-0SIT
designator u?
3V 128M-BIT / SERIAL NOR FLASH MEMORY; ComponentLink1Description: Datasheet; ComponentLink1URL: https://www.farnell.com/datasheets/2712422.pdf?src-supplier=Farnell
footprint SPI_Flash_MT25QL128ABA1ESE-0SIT (SOP2, 8-Leads, Body 5.29x5.29mm, Pitch 1.27mm, IPC Medium Density)
pins: 1 CS, 2 SO, 3 WP#, 4 GND, 5 SI, 6 SCLK, 7 HOLD#, 8 VCC

## SY7088DGC
designator LED?
LED; Manufacturer_Name: Silergy; Manufacturer_Part_Number: SY7088DGC; Datasheet Link: https://datasheet.lcsc.com/szlcsc/Silergy-Corp-SY7088DGC_C178240.pdf; Height: 0.9mm
footprint SY7088
pins: 1 LX_1, 2 LX_2, 3 EN, 4 SGND, 5 FB, 6 IN, 7 OUT_1, 8 OUT_2, 9 PGND

## TypeC_cntr
designator USB_C?
Generic typeC connector
footprint TypeC
pins: A1 GND, A4 VCC, A5 CC1, A6 DP1, A7 DN1, A12 Shell, B5 CC2, B6 DP2, B7 DN2